# Altium schematic symbol library 100pF_capacitor_0805_Components - 15.03.22 - 13.28.SchLib: 1 symbol
Pins are listed as number, name and electrical type; pins without a type are passive.

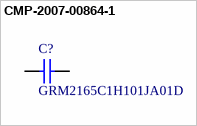
[diagram p0: symbol CMP-2007-00864-1]

## CMP-2007-00864-1
designator C?, comment GRM2165C1H101JA01D
Manufacturer: Murata; Part Number: GRM2165C1H101JA01D
footprint CAPC2013X70X45NL10T25 (Chip Capacitor, 2-Leads, Body 2.00x1.25mm, IPC Medium Density)
footprint CAPC2013X70X45ML10T25 (Chip Capacitor, 2-Leads, Body 2.00x1.25mm, IPC Low Density)
footprint CAPC2013X70X45LL10T25 (Chip Capacitor, 2-Leads, Body 2.00x1.25mm, IPC High Density)
pins: 1, 2
1 alternate drawing of the same symbol